# Altium integrated library ON Semi Converter Serial to Parallel.IntLib: 4 symbols
Pins are listed as number, name and electrical type; pins without a type are passive.

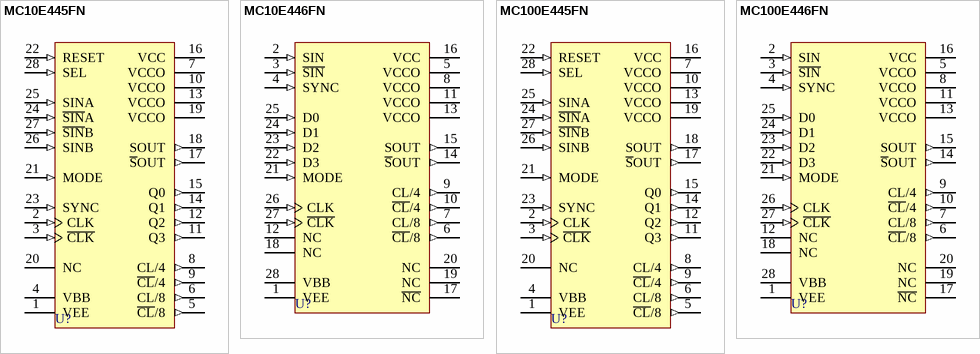
[diagram p0: symbols MC10E445FN to MC100E446FN]

## MC10E445FN
designator U?
4-Bit Serial/Parallel Converter; Published: 15-Apr-2002; LatestRevisionDate: 13-Apr-2006; LatestRevisionNote: IPC-7351 Footprint Added.; DatasheetVersion: Dec-1999; PackageVersion: Feb-2000; PackageReference: 776-02; Publisher: Altium Limited; PackageDescription: 28-Pin Leaded Chip Carrier 1.27 mm Pitch; ComponentLink1Description: Manufacturer Link; ComponentLink1URL: http://www.onsemi.com/; ComponentLink2Description: Datasheet; ComponentLink2URL: http://www.onsemi.com/pub/Collateral/MC10E445-D.PDF
footprint 776-02_N (Leaded Chip Carrier, 28-Leads, Body 11.5x11.5mm, Pitch 1.27mm, IPC Medium Density)
footprint 776-02_L (Leaded Chip Carrier, 28-Leads, Body 11.5x11.5mm, Pitch 1.27mm, IPC High Density)
footprint 776-02_M (Leaded Chip Carrier, 28-Leads, Body 11.5x11.5mm, Pitch 1.27mm, IPC Low Density)
pins: 1 VEE (power), 2 CLK (in), 3 ~{CLK} (in), 4 VBB (power), 5 ~{CL}/8 (out), 6 CL/8 (out), 7 VCCO (power), 8 CL/4 (out), 9 ~{CL}/4 (out), 10 VCCO (power), 11 Q3 (out), 12 Q2 (out), 13 VCCO (power), 14 Q1 (out), 15 Q0 (out), 16 VCC (power), 17 ~{S}OUT (out), 18 SOUT (out), 19 VCCO (power), 20 NC, 21 MODE (in), 22 RESET (in), 23 SYNC (in), 24 ~{SIN}A (in), 25 SINA (in), 26 SINB (in), 27 ~{SIN}B (in), 28 SEL (in)

## MC10E446FN
designator U?
4-Bit Parallel/Serial Converter; Published: 15-Apr-2002; LatestRevisionDate: 13-Apr-2006; LatestRevisionNote: IPC-7351 Footprint Added.; DatasheetVersion: 1996; PackageVersion: Feb-2000; PackageReference: 776-02; Publisher: Altium Limited; PackageDescription: 28-Pin Leaded Chip Carrier 1.27 mm Pitch; ComponentLink1Description: Manufacturer Link; ComponentLink1URL: http://www.onsemi.com/; ComponentLink2Description: Datasheet; ComponentLink2URL: http://www.onsemi.com/pub/Collateral/MC10E446-D.PDF
footprint 776-02_N (Leaded Chip Carrier, 28-Leads, Body 11.5x11.5mm, Pitch 1.27mm, IPC Medium Density)
footprint 776-02_L (Leaded Chip Carrier, 28-Leads, Body 11.5x11.5mm, Pitch 1.27mm, IPC High Density)
footprint 776-02_M (Leaded Chip Carrier, 28-Leads, Body 11.5x11.5mm, Pitch 1.27mm, IPC Low Density)
pins: 1 VEE (power), 2 SIN (in), 3 ~{SIN} (in), 4 SYNC (in), 5 VCCO (power), 6 ~{CL}/8 (out), 7 CL/8 (out), 8 VCCO (power), 9 CL/4 (out), 10 ~{CL}/4 (out), 11 VCCO (power), 12 NC, 13 VCCO (power), 14 ~{S}OUT (out), 15 SOUT (out), 16 VCC (power), 17 ~{NC}, 18 NC, 19 NC, 20 NC, 21 MODE (in), 22 D3 (in), 23 D2 (in), 24 D1 (in), 25 D0 (in), 26 CLK (in), 27 ~{CLK} (in), 28 VBB (power)

## MC100E445FN
designator U?
4-Bit Serial/Parallel Converter; Published: 15-Apr-2002; LatestRevisionDate: 13-Apr-2006; LatestRevisionNote: IPC-7351 Footprint Added.; DatasheetVersion: Dec-1999; PackageVersion: Feb-2000; PackageReference: 776-02; Publisher: Altium Limited; PackageDescription: 28-Pin Leaded Chip Carrier 1.27 mm Pitch; ComponentLink1Description: Manufacturer Link; ComponentLink1URL: http://www.onsemi.com/; ComponentLink2Description: Datasheet; ComponentLink2URL: http://www.onsemi.com/pub/Collateral/MC10E445-D.PDF
footprint 776-02_N (Leaded Chip Carrier, 28-Leads, Body 11.5x11.5mm, Pitch 1.27mm, IPC Medium Density)
footprint 776-02_L (Leaded Chip Carrier, 28-Leads, Body 11.5x11.5mm, Pitch 1.27mm, IPC High Density)
footprint 776-02_M (Leaded Chip Carrier, 28-Leads, Body 11.5x11.5mm, Pitch 1.27mm, IPC Low Density)
pins: 1 VEE (power), 2 CLK (in), 3 ~{CLK} (in), 4 VBB (power), 5 ~{CL}/8 (out), 6 CL/8 (out), 7 VCCO (power), 8 CL/4 (out), 9 ~{CL}/4 (out), 10 VCCO (power), 11 Q3 (out), 12 Q2 (out), 13 VCCO (power), 14 Q1 (out), 15 Q0 (out), 16 VCC (power), 17 ~{S}OUT (out), 18 SOUT (out), 19 VCCO (power), 20 NC, 21 MODE (in), 22 RESET (in), 23 SYNC (in), 24 ~{SIN}A (in), 25 SINA (in), 26 SINB (in), 27 ~{SIN}B (in), 28 SEL (in)

## MC100E446FN
designator U?
4-Bit Parallel/Serial Converter; Published: 15-Apr-2002; LatestRevisionDate: 13-Apr-2006; LatestRevisionNote: IPC-7351 Footprint Added.; DatasheetVersion: 1996; PackageVersion: Feb-2000; PackageReference: 776-02; Publisher: Altium Limited; PackageDescription: 28-Pin Leaded Chip Carrier 1.27 mm Pitch; ComponentLink1Description: Manufacturer Link; ComponentLink1URL: http://www.onsemi.com/; ComponentLink2Description: Datasheet; ComponentLink2URL: http://www.onsemi.com/pub/Collateral/MC10E446-D.PDF
footprint 776-02_N (Leaded Chip Carrier, 28-Leads, Body 11.5x11.5mm, Pitch 1.27mm, IPC Medium Density)
footprint 776-02_L (Leaded Chip Carrier, 28-Leads, Body 11.5x11.5mm, Pitch 1.27mm, IPC High Density)
footprint 776-02_M (Leaded Chip Carrier, 28-Leads, Body 11.5x11.5mm, Pitch 1.27mm, IPC Low Density)
pins: 1 VEE (power), 2 SIN (in), 3 ~{SIN} (in), 4 SYNC (in), 5 VCCO (power), 6 ~{CL}/8 (out), 7 CL/8 (out), 8 VCCO (power), 9 CL/4 (out), 10 ~{CL}/4 (out), 11 VCCO (power), 12 NC, 13 VCCO (power), 14 ~{S}OUT (out), 15 SOUT (out), 16 VCC (power), 17 ~{NC}, 18 NC, 19 NC, 20 NC, 21 MODE (in), 22 D3 (in), 23 D2 (in), 24 D1 (in), 25 D0 (in), 26 CLK (in), 27 ~{CLK} (in), 28 VBB (power)